# Altium integrated library ESQ-107-48-G-D.IntLib: 1 symbol
Pins are listed as number, name and electrical type; pins without a type are passive.

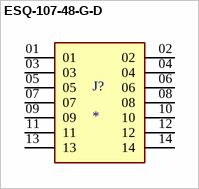
[diagram p0: symbol ESQ-107-48-G-D]

## ESQ-107-48-G-D
designator J?
MP: ESQ-107-48-G-D; Value: *; Package: None; Price: None; Availability: Unavailable
footprint SAMTEC_ESQ-107-48-G-D
pins: 01, 02, 03, 04, 05, 06, 07, 08, 09, 10, 11, 12, 13, 14